# EAGLE library part HV_DCDC_VI-J71-CZ (library HyTechDevices)
Vicor-Corporation VI-J71-CZ Product Page <https://www.digikey.com/product-detail/en/vicor-corporation/VI-J71-CZ/1102-1486-ND/2996194> Datasheet <http://cdn.vicorpower.com/documents/datasheets/ds_vi-j00.pdf>
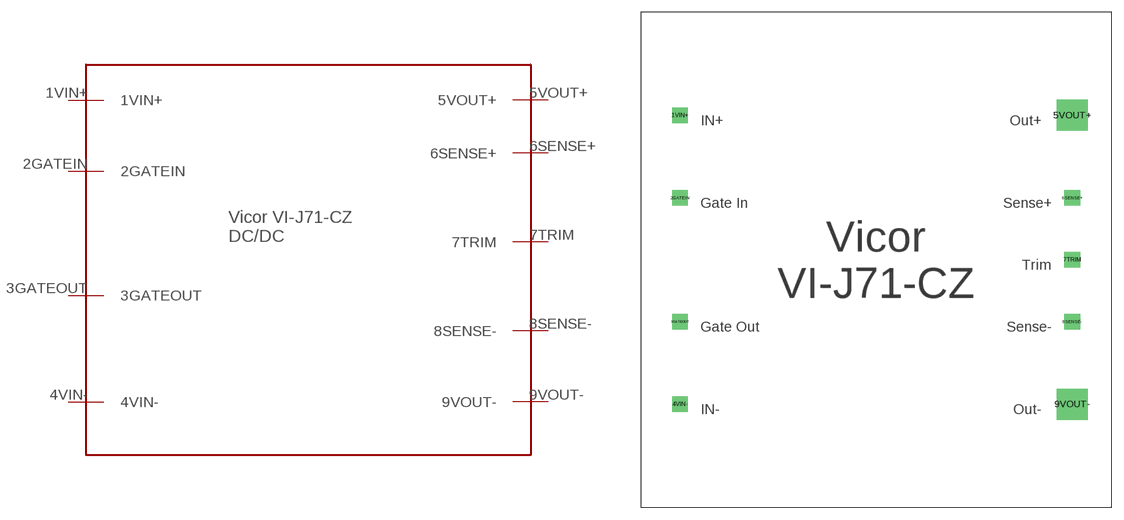
[diagram p1: symbol with the pads of HV_DCDC_VI-J71-CZ; footprint HV_DCDC_VI-J71-CZ]

Designator prefix -

## HV_DCDC_VI-J71-CZ  [HV_DCDC_VI-J71-CZ]
1VIN+  1VIN+
2GATEIN  2GATEIN
3GATEOUT  3GATEOUT
4VIN-  4VIN-
5VOUT+  5VOUT+
6SENSE+  6SENSE+
7TRIM  7TRIM
8SENSE-  8SENSE-
9VOUT-  9VOUT-

## Footprint HV_DCDC_VI-J71-CZ (pad centres in mm)
drill 1.3 square: 1VIN+ 5.08,-12.7; 2GATEIN 5.08,-22.86; 3GATEOUT 5.08,-38.1; 4VIN- 5.08,-48.26; 6SENSE+ 53.34,-22.86; 7TRIM 53.34,-30.48; 8SENSE- 53.34,-38.1
drill 2.8 square: 5VOUT+ 53.34,-12.7; 9VOUT- 53.34,-48.26